# Altium schematic symbol library MIC5203-3P3YM5-TR.SchLib: 1 symbol
Pins are listed as number, name and electrical type; pins without a type are passive.

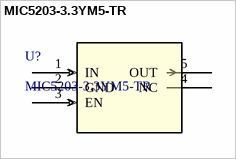
[diagram p0: symbol MIC5203-3.3YM5-TR]

## MIC5203-3.3YM5-TR
designator U?
No Description Available; Mfr_Name: Microchip; Copyright: Copyright (C) 2022 Ultra Librarian. All rights reserved.; Manufacturer_Part_Number: MIC5203-3.3YM5-TR; Digi-Key_Part_Number_1: 576-2728-1-ND; Digi-Key_Part_Number_2: 576-2728-2-ND; Digi-Key_Part_Number_3: 576-2728-6-ND; RefDes: RefDes; Type: DEV
footprint SOT-23-5_M5_MCH
pins: 1 IN (in), 2 GND (power), 3 EN (in), 4 NC, 5 OUT